# Altium schematic symbol library DCR01_U.Schlib: 1 symbol
Pins are listed as number, name and electrical type; pins without a type are passive.

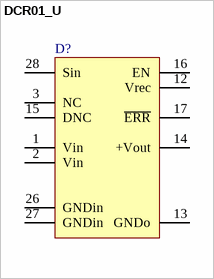
[diagram p0: symbol DCR01_U]

## DCR01_U
designator D?
DC-DC converter; Package Information: Latest Revision: ver11.0, Feb-2003; Configures: APEX II, APEX 20K, Mercury, ACEX 1K & FLEX Devices; Code - JEDEC: MS-026-ABA; Published: 17-Sep-2003; Datasheet: Latest Revision: ver1.1, Oct-2003; Package Reference: TQFP32; Publisher: Altium Limited
footprint SO-28_DCR
pins: 1 Vin (power), 2 Vin (power), 3 NC, 12 Vrec (power), 13 GNDo (power), 14 +Vout (power), 15 DNC, 16 EN, 17 ~{ERR} (power), 26 GNDin (power), 27 GNDin (power), 28 Sin (hiz)